# Altium footprint library AMPHENOL_RJMG1B.PcbLib: 1 footprints
Each footprint in its own frame and in the unit in brackets; x right, y up, seen from the top. Pads: shape width x height; smd on the part's side, far side on the other; paste and mask are expansions set on the pad; w line width, h text height; cw(c..) or ccw(c..) is an arc to the next point about the centre after c.
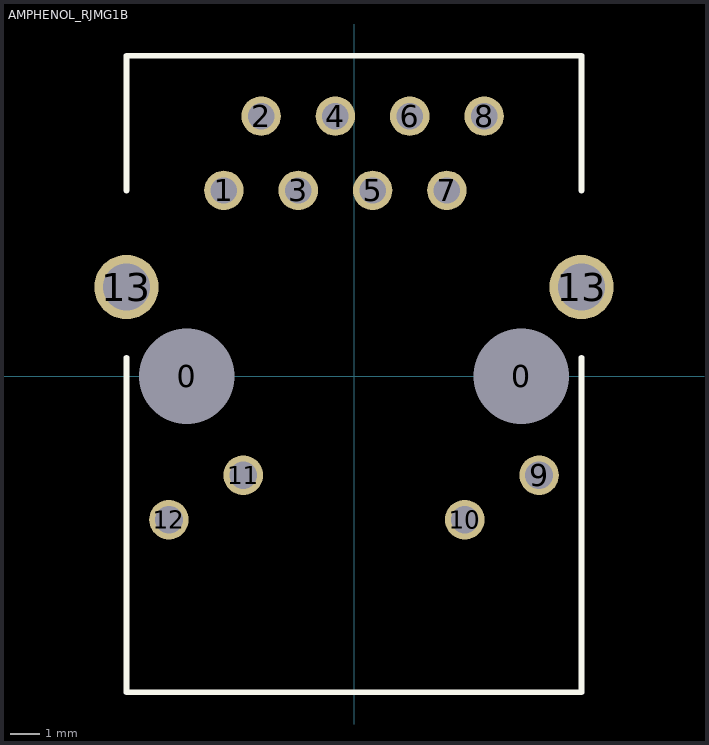
[diagram p0: the footprint, top view; thin cyan lines are the x and y axes]

## AMPHENOL_RJMG1B [mm]
pads (16):
  round 1.35 hole 3.25 unplated: 0(-5.715,0) 0(5.715,0)
  round 1.35 hole 0.9: 1(-4.445,6.35) 2(-3.175,8.89) 3(-1.905,6.35) 4(-0.635,8.89) 5(0.635,6.35) 6(1.905,8.89) 7(3.175,6.35) 8(4.445,8.89)
  round 1.35 hole 0.95: 9(6.325,-3.38) 10(3.785,-4.9) 11(-3.785,-3.38) 12(-6.325,-4.9)
  round 2.2 hole 1.6: 13(-7.775,3.05) 13(7.775,3.05)
Top Overlay:
  lines w0.2: -7.775,0.635 -7.775,-10.795 7.775,-10.795 7.775,0.635 ; -7.775,6.35 -7.775,10.95 7.775,10.95 7.775,6.35
3D body "RJMG1BD3B8K1ANR.STEP": height 15.47, standoff -3.32, extent -9.875,-10.86 9.875,10.92